# Altium footprint library Meshtastic.PcbLib: 1 footprints
Each footprint in its own frame and in the unit in brackets; x right, y up, seen from the top. Pads: shape width x height; smd on the part's side, far side on the other; paste and mask are expansions set on the pad; w line width, h text height; cw(c..) or ccw(c..) is an arc to the next point about the centre after c.
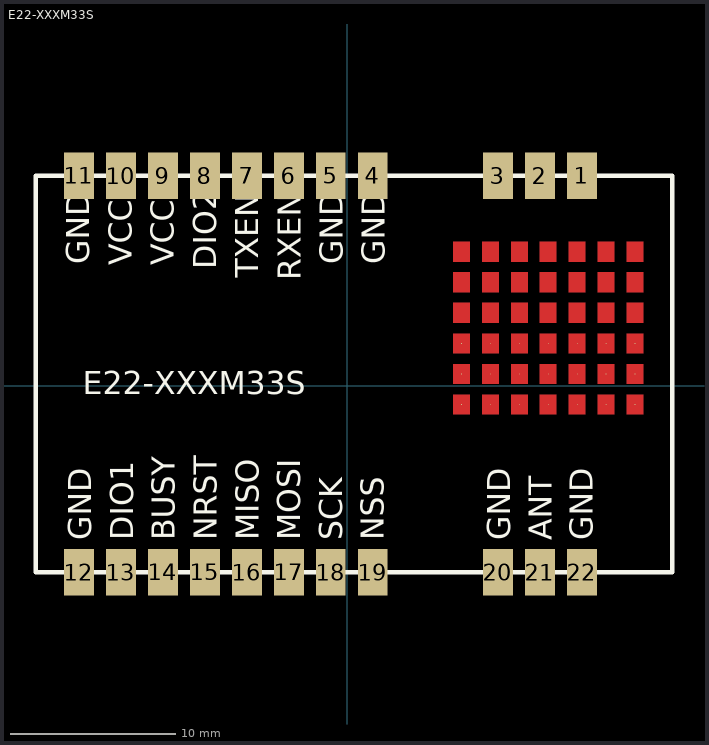
[diagram p0: the footprint, top view; thin cyan lines are the x and y axes]

## E22-XXXM33S [mm]
pads (64):
  rect 1.8x2.8 smd mask+0: 1(14.19,12.725) 2(11.65,12.725) 3(9.11,12.725) 4(1.54,12.725) 5(-1,12.725) 6(-3.54,12.725) 7(-6.08,12.725) 8(-8.62,12.725) 9(-11.16,12.725) 10(-13.7,12.725) 11(-16.24,12.725) 12(-16.24,-11.275) 13(-13.7,-11.275) 14(-11.16,-11.275) 15(-8.62,-11.275) 16(-6.08,-11.275) 17(-3.54,-11.275) 18(-1,-11.275) 19(1.54,-11.275) 20(9.11,-11.275) 21(11.65,-11.275) 22(14.19,-11.275)
  round 0.025 smd mask+0.01: 22(6.9,-1.125) 22(6.9,0.725) 22(6.9,2.575) 22(6.9,4.425) 22(6.9,6.275) 22(6.9,8.125) 22(8.65,-1.125) 22(8.65,0.725) 22(8.65,2.575) 22(8.65,4.425) 22(8.65,6.275) 22(8.65,8.125) 22(10.4,-1.125) 22(10.4,0.725) 22(10.4,2.575) 22(10.4,4.425) 22(10.4,6.275) 22(10.4,8.125) 22(12.15,-1.125) 22(12.15,0.725) 22(12.15,2.575) 22(12.15,4.425) 22(12.15,6.275) 22(12.15,8.125) 22(13.9,-1.125) 22(13.9,0.725) 22(13.9,2.575) 22(13.9,4.425) 22(13.9,6.275) 22(13.9,8.125) 22(15.65,-1.125) 22(15.65,0.725) 22(15.65,2.575) 22(15.65,4.425) 22(15.65,6.275) 22(15.65,8.125) 22(17.4,-1.125) 22(17.4,0.725) 22(17.4,2.575) 22(17.4,4.425) 22(17.4,6.275) 22(17.4,8.125)
Top Layer:
  region: 7.4,-1.725 6.4,-1.725 6.4,-0.525 7.4,-0.525
  region: 7.4,0.125 6.4,0.125 6.4,1.325 7.4,1.325
  region: 7.4,1.975 6.4,1.975 6.4,3.175 7.4,3.175
  region: 7.4,3.825 6.4,3.825 6.4,5.025 7.4,5.025
  region: 7.4,5.675 6.4,5.675 6.4,6.875 7.4,6.875
  region: 16.15,7.525 15.15,7.525 15.15,8.725 16.15,8.725
  region: 7.4,7.525 6.4,7.525 6.4,8.725 7.4,8.725
  region: 17.9,-1.725 16.9,-1.725 16.9,-0.525 17.9,-0.525
  region: 17.9,0.125 16.9,0.125 16.9,1.325 17.9,1.325
  region: 16.15,-1.725 15.15,-1.725 15.15,-0.525 16.15,-0.525
  region: 16.15,0.125 15.15,0.125 15.15,1.325 16.15,1.325
  region: 14.4,-1.725 13.4,-1.725 13.4,-0.525 14.4,-0.525
  region: 14.4,0.125 13.4,0.125 13.4,1.325 14.4,1.325
  region: 12.65,-1.725 11.65,-1.725 11.65,-0.525 12.65,-0.525
  region: 12.65,0.125 11.65,0.125 11.65,1.325 12.65,1.325
  region: 10.9,-1.725 9.9,-1.725 9.9,-0.525 10.9,-0.525
  region: 10.9,0.125 9.9,0.125 9.9,1.325 10.9,1.325
  region: 9.15,-1.725 8.15,-1.725 8.15,-0.525 9.15,-0.525
  region: 9.15,0.125 8.15,0.125 8.15,1.325 9.15,1.325
  region: 17.9,1.975 16.9,1.975 16.9,3.175 17.9,3.175
  region: 16.15,1.975 15.15,1.975 15.15,3.175 16.15,3.175
  region: 14.4,1.975 13.4,1.975 13.4,3.175 14.4,3.175
  region: 12.65,1.975 11.65,1.975 11.65,3.175 12.65,3.175
  region: 10.9,1.975 9.9,1.975 9.9,3.175 10.9,3.175
  region: 9.15,1.975 8.15,1.975 8.15,3.175 9.15,3.175
  region: 17.9,3.825 16.9,3.825 16.9,5.025 17.9,5.025
  region: 16.15,3.825 15.15,3.825 15.15,5.025 16.15,5.025
  region: 14.4,3.825 13.4,3.825 13.4,5.025 14.4,5.025
  region: 12.65,3.825 11.65,3.825 11.65,5.025 12.65,5.025
  region: 10.9,3.825 9.9,3.825 9.9,5.025 10.9,5.025
  region: 9.15,3.825 8.15,3.825 8.15,5.025 9.15,5.025
  region: 17.9,5.675 16.9,5.675 16.9,6.875 17.9,6.875
  region: 16.15,5.675 15.15,5.675 15.15,6.875 16.15,6.875
  region: 14.4,5.675 13.4,5.675 13.4,6.875 14.4,6.875
  region: 12.65,5.675 11.65,5.675 11.65,6.875 12.65,6.875
  region: 10.9,5.675 9.9,5.675 9.9,6.875 10.9,6.875
  region: 9.15,5.675 8.15,5.675 8.15,6.875 9.15,6.875
  region: 17.9,7.525 16.9,7.525 16.9,8.725 17.9,8.725
  region: 14.4,7.525 13.4,7.525 13.4,8.725 14.4,8.725
  region: 12.65,7.525 11.65,7.525 11.65,8.725 12.65,8.725
  region: 10.9,7.525 9.9,7.525 9.9,8.725 10.9,8.725
  region: 9.15,7.525 8.15,7.525 8.15,8.725 9.15,8.725
Top Overlay:
  lines w0.254: -18.85,-11.275 -18.85,12.725 19.65,12.725 19.65,-11.275 -18.85,-11.275
  text "E22-XXXM33S" at -16.002,-0.508 h1.4
  text "GND" at 14.852,-9.325 h1.4
  text "ANT" at 12.361,-9.325 h1.4
  text "GND" at 9.847,-9.325 h1.4
  text "NSS" at 2.213,-9.325 h1.4
  text "SCK" at -0.317,-9.325 h1.4
  text "MOSI" at -2.846,-9.325 h1.4
  text "MISO" at -5.376,-9.325 h1.4
  text "NRST" at -7.905,-9.325 h1.4
  text "BUSY" at -10.435,-9.325 h1.4
  text "DIO1" at -12.964,-9.325 h1.4
  text "GND" at -15.494,-9.325 h1.4
  text "TXEN" at -5.391,6.557 h1.4
  text "GND" at -0.282,7.364 h1.4
  text "DIO2" at -7.945,7.071 h1.4
  text "VCC" at -13.054,7.297 h1.4
  text "RXEN" at -2.837,6.411 h1.4
  text "VCC" at -10.5,7.297 h1.4
  text "GND" at 2.272,7.364 h1.4
  text "GND" at -15.608,7.364 h1.4
Top Solder:
  region: 7.4,7.525 6.4,7.525 6.4,8.725 7.4,8.725